# EAGLE library part FE06-2S (library con-lsta)
FEMALE HEADER
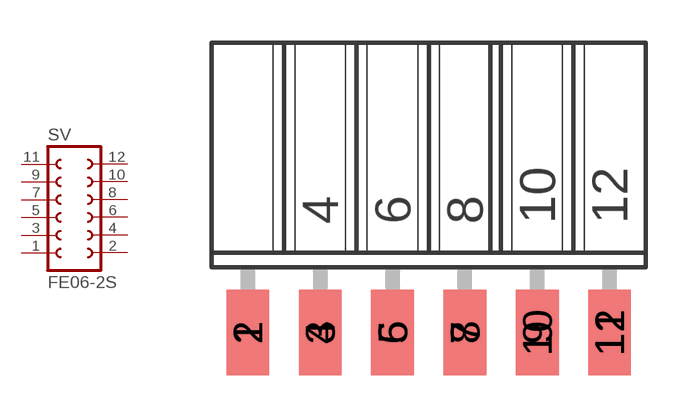
[diagram p44: symbol with the pads of FE06-2S; footprint FE06-2S]

Designator prefix SV

## FE06-2S  [FE06-2S]
1  1  pas
2  2  pas
3  3  pas
4  4  pas
5  5  pas
6  6  pas
7  7  pas
8  8  pas
9  9  pas
10  10  pas
11  11  pas
12  12  pas

## Footprint FE06-2S (pad centres in mm)
Edge mount SMD dual row connector
smd 1.5 x 3 bottom: 1 -6.35,-1.27; 3 -3.81,-1.27; 5 -1.27,-1.27; 7 1.27,-1.27; 9 3.81,-1.27; 11 6.35,-1.27
smd 1.5 x 3: 2 -6.35,-1.27; 4 -3.81,-1.27; 6 -1.27,-1.27; 8 1.27,-1.27; 10 3.81,-1.27; 12 6.35,-1.27